# Altium schematic symbol library LTC6951.SchLib: 1 symbol
Pins are listed as number, name and electrical type; pins without a type are passive.

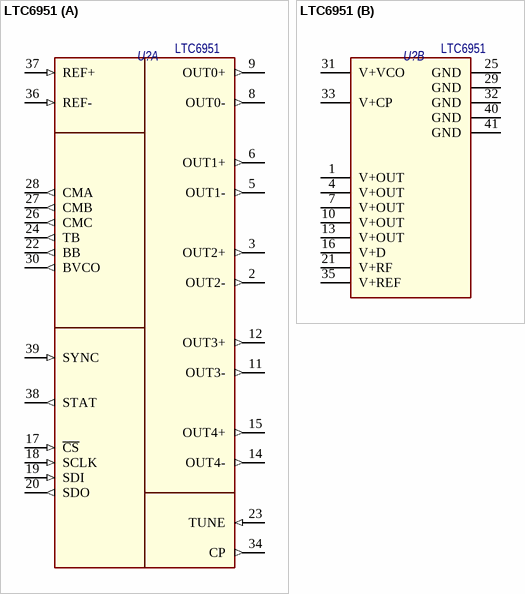
[diagram p0: symbol LTC6951]

## LTC6951
designator U?
Ultralow Jitter Multioutput Clock Synthesizer with Integrated VCO; Потребление, Вт: 1.0; Назначение: Ultralow Jitter Multioutput Clock Synthesizer with Integrated VCO; ComponentLink1Description: DataSheet; ComponentLink1URL: https://www.analog.com/media/en/technical-documentation/data-sheets/6951fa.pdf; Наименование: LTC6951
part A pins: 2 OUT2- (out), 3 OUT2+ (out), 5 OUT1- (out), 6 OUT1+ (out), 8 OUT0- (out), 9 OUT0+ (out), 11 OUT3- (out), 12 OUT3+ (out), 14 OUT4- (out), 15 OUT4+ (out), 17 ~{CS} (in), 18 SCLK (in), 19 SDI (in), 20 SDO (out), 22 BB (out), 23 TUNE (in), 24 TB (out), 26 CMC (out), 27 CMB (out), 28 CMA (out), 30 BVCO (out), 34 CP (out), 36 REF- (in), 37 REF+ (in), 38 STAT (out), 39 SYNC (in)
part B pins: 1 V+OUT, 4 V+OUT, 7 V+OUT, 10 V+OUT, 13 V+OUT, 16 V+D, 21 V+RF, 25 GND, 29 GND, 31 V+VCO, 32 GND, 33 V+CP, 35 V+REF, 40 GND, 41 GND "Thermal pad"